# EAGLE library part TI-TPS63001-3.3V-BUCKBOOST (library arducorder-mini)
Texas Instruments TPS63001 3.3V Buck/Boost DC-DC Converter. High efficiency, single inductor.
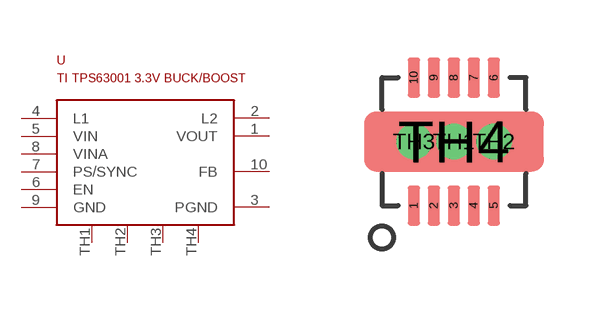
[diagram p30: symbol with the pads of TPS63001; footprint TPS63001]

Designator prefix -

## TI-TPS63001-3.3V-BUCKBOOST  [TPS63001]
1  VOUT
2  L2
3  PGND
4  L1
5  VIN
6  EN
7  PS/SYNC
8  VINA
9  GND
10  FB
TH1  THERM1
TH2  THERM2
TH3  THERM3
TH4  THERM4

## Footprint TPS63001 (pad centres in mm)
smd 0.3 x 1: 1 -1,-1.6; 2 -0.5,-1.6; 3 0,-1.6; 4 0.5,-1.6; 5 1,-1.6; 6 1,1.6; 7 0.5,1.6; 8 0,1.6; 9 -0.5,1.6; 10 -1,1.6
drill 0.381: TH1 0,0; TH2 1,0; TH3 -1,0
smd 4.5 x 1.5: TH4 0,0